# Altium footprint library SamacSys.PcbLib: 17 footprints (part 2 of 2)
Each footprint in its own frame and in the unit in brackets; x right, y up, seen from the top. Pads: shape width x height; smd on the part's side, far side on the other; paste and mask are expansions set on the pad; w line width, h text height; cw(c..) or ccw(c..) is an arc to the next point about the centre after c.
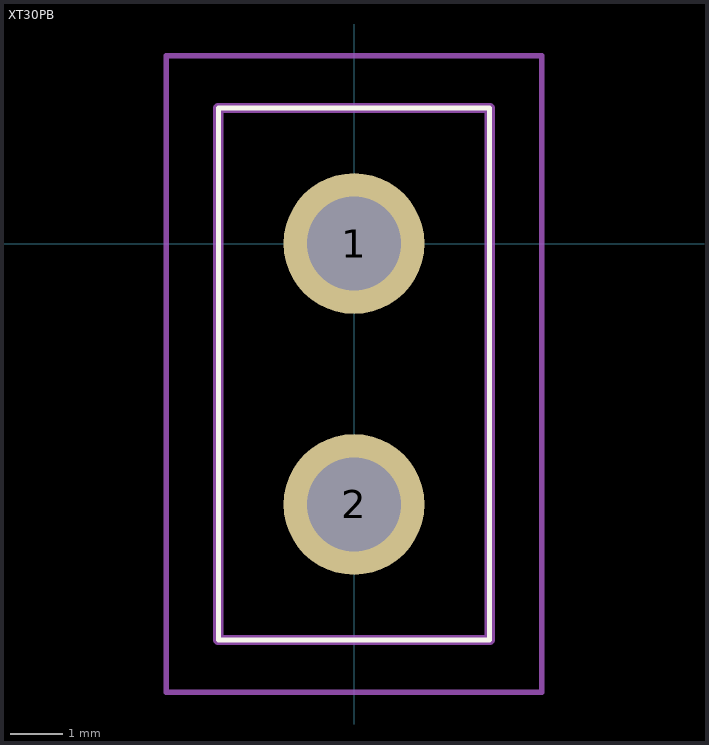
[diagram p1: the footprint, top view; thin cyan lines are the x and y axes]

## XT30PB [mm]
pads (2):
  round 2.7 hole 1.8: 1(0,0) 2(0,-5)
Top Overlay:
  lines w0.1: -2.6,-7.6 -2.6,2.6 2.6,2.6 2.6,-7.6 -2.6,-7.6
Mechanical 13:
  lines w0.2: -2.6,-7.6 -2.6,2.6 2.6,2.6 2.6,-7.6 -2.6,-7.6
Mechanical 15:
  lines w0.1: -3.6,-8.6 -3.6,3.6 3.6,3.6 3.6,-8.6 -3.6,-8.6
3D body "XT30PB.stp": height 10.66, standoff -2.04, extent -2.6,-7.6 2.6,2.6